# Altium schematic symbol library battery_protect.SchLib: 7 symbols
Pins are listed as number, name and electrical type; pins without a type are passive.

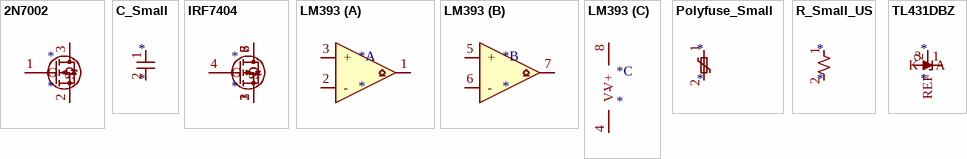
[diagram p0: symbols 2N7002 to TL431DBZ]

## 2N7002
designator *
pins: 1 G, 2 S, 3 D

## C_Small
designator *
pins: 1, 2

## IRF7404
designator *
pins: 1 S, 2 S, 3 S, 4 G, 5 D, 6 D, 7 D, 8 D

## LM393
designator *
part A pins: 1, 2 -, 3 +
part B pins: 5 +, 6 -, 7
part C pins: 4 V-, 8 V+

## Polyfuse_Small
designator *
pins: 1, 2

## R_Small_US
designator *
pins: 1, 2

## TL431DBZ
designator *
pins: 1 K, 2 REF, 3 A